# EAGLE library part ETHERNET (library customy)
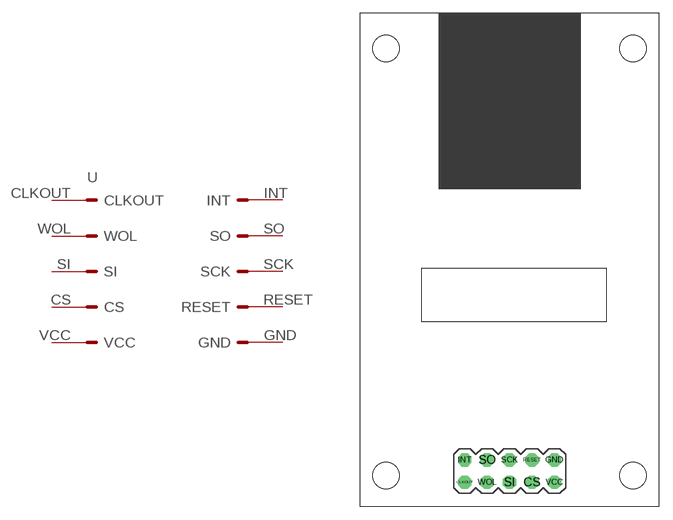
[diagram p7: symbol with the pads of ETHERNET; footprint ETHERNET]

Designator prefix -

## ETHERNET  [ETHERNET]
CLKOUT  CLKOUT
CS  CS
GND  GND
INT  INT
RESET  RESET
SCK  SCK
SI  SI
SO  SO
VCC  VCC
WOL  WOL

## Footprint ETHERNET (pad centres in mm)
PIN HEADER
drill 1.016 octagon: CLKOUT 11.92,2.73; CS 19.54,2.73; GND 22.08,5.27; INT 11.92,5.27; RESET 19.54,5.27; SCK 17,5.27; SI 17,2.73; SO 14.46,5.27; VCC 22.08,2.73; WOL 14.46,2.73